# Altium schematic symbol library V40TestAdapter.SchLib: 1 symbol
Pins are listed as number, name and electrical type; pins without a type are passive.

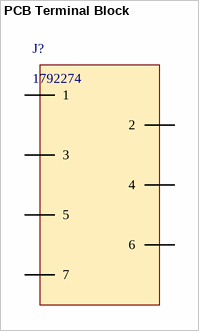
[diagram p0: symbol PCB Terminal Block]

## PCB Terminal Block
designator J?, comment 1792274
footprint 7P Terminal Block (Phoenix Contact - Push-Lock spring connection)
pins: 1, 2, 3, 4, 5, 6, 7